# EAGLE library part PYB20-Q48-S24_DC-TO-DC_CONVERTER (library main_library)
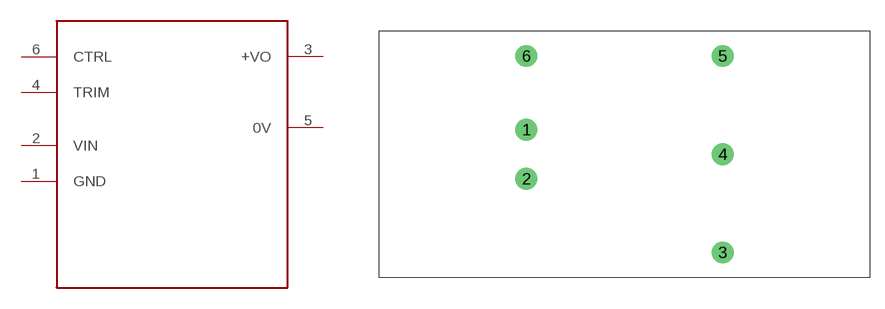
[diagram p0: symbol with the pads of PYB20; footprint PYB20]

Designator prefix -

## PYB20-Q48-S24_DC-TO-DC_CONVERTER  [PYB20]
1  GND  pwr
2  VIN  pwr
3  +VO  pwr
4  TRIM
5  0V  pwr
6  CTRL

## Footprint PYB20 (pad centres in mm)
drill 1.499: 1 -7.62,2.54; 2 -7.62,-2.54; 3 12.7,-10.16; 4 12.7,0; 5 12.7,10.16; 6 -7.62,10.16